# Altium integrated library Displays.IntLib: 6 symbols
Pins are listed as number, name and electrical type; pins without a type are passive.

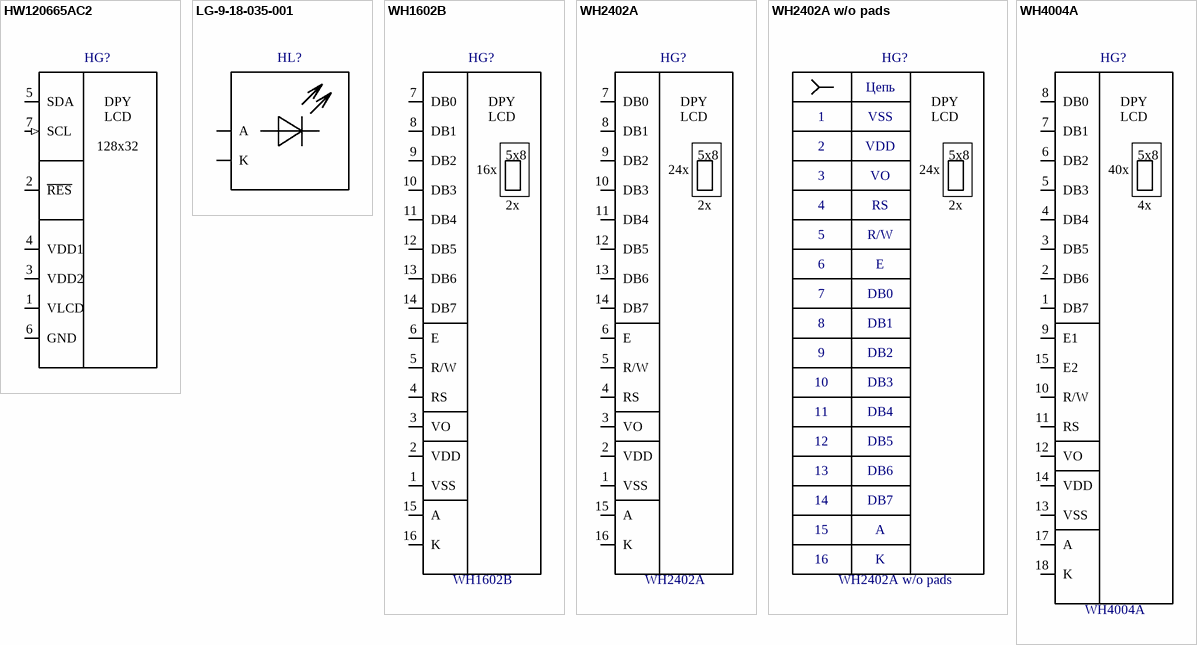
[diagram p0: symbols HW120665AC2 to WH4004A]

## HW120665AC2
designator HG?, comment ?  (value not drawn)
LCD module 128x32 px; PartNumber: HW120665AC2; 1Ccode: М00046490; 1Cname: Индикатор HW120665Ac2; 1Cgroup: 01010201; 1Carticle: 35170; Name: ЖК-индикатор HW120665AC2; 1CfullName: Индикатор HW120665Ac2; Manufacturer: *; ComponentLink1Description: DatasheetLink; ComponentLink1URL: *
footprint HW120665AC2 (128x32 LCD display module)
pins: 1 VLCD (power), 2 ~{RES}, 3 VDD2 (power), 4 VDD1 (power), 5 SDA (io), 6 GND (power), 7 SCL (in)
1 alternate drawing of the same symbol
text: DPY; LCD; 128x32

## LG-9-18-035-001
designator HL?  (value not drawn)
Backlight for LCD; PartNumber: LG-9-18-035-001; 1Ccode: М00090823; 1Cname: Подсветка MUL1449W (белая); 1Cgroup: 01010201; 1Carticle: 80223; Name: Подсветка для ЖКИ LG-9-18-035-001; 1CfullName: Подсветка MUL1449W (белая); Manufacturer: *; ComponentLink1Description: DatasheetLink; ComponentLink1URL: *
footprint LG-9-18-035-001 (Backlight for LCD); pin to pad 1>A 2>K
pins: 1 A, 2 K
1 alternate drawing of the same symbol

## WH1602B
designator HG?
16x2 Character LCD display module; 1Ccode: *; 1Cname: *; 1CfullName: *; 1Cgroup: *; 1Carticle: *; Manufacturer: *; Name: *; PartNumber: *; ComponentLink1Description: DatasheetLink; ComponentLink1URL: *
footprint WH1602B with pads (16x2 Character LCD display module)
pins: 1 VSS, 2 VDD, 3 VO, 4 RS, 5 R/W, 6 E, 7 DB0, 8 DB1, 9 DB2, 10 DB3, 11 DB4, 12 DB5, 13 DB6, 14 DB7, 15 A, 16 K
1 alternate drawing of the same symbol
text: DPY; LCD; 5x8; 16x; 2x

## WH2402A
designator HG?
24x2 Character LCD display module
footprint WH2402A (24x2 Character LCD display module)
footprint WH2402A pad1.6x2.0 (24x2 Character LCD display module)
pins: 1 VSS, 2 VDD, 3 VO, 4 RS, 5 R/W, 6 E, 7 DB0, 8 DB1, 9 DB2, 10 DB3, 11 DB4, 12 DB5, 13 DB6, 14 DB7, 15 A, 16 K
1 alternate drawing of the same symbol
text: DPY; LCD; 5x8; 24x; 2x

## WH2402A w/o pads
designator HG?
24x2 Character LCD display module
footprint WH2402A w/o pads (24x2 Character LCD display module)
1 alternate drawing of the same symbol
text: Цепь; DPY; 1; VSS; LCD; 2; VDD; 5x8; 24x; 3; VO; 4; RS; 2x; 5; R/W; 6; E; 7; DB0; 8; DB1; 9; DB2; 10; DB3; 11; DB4; 12; DB5; 13; DB6; 14; DB7; 15; A; 16; K

## WH4004A
designator HG?
40x4 Character LCD display module
footprint WH4004A (40x4 Character LCD display module)
pins: 1 DB7, 2 DB6, 3 DB5, 4 DB4, 5 DB3, 6 DB2, 7 DB1, 8 DB0, 9 E1, 10 R/W, 11 RS, 12 VO, 13 VSS, 14 VDD, 15 E2, 17 A, 18 K
text: DPY; LCD; 5x8; 40x; 4x